# Altium schematic symbol library FDMS86183.SchLib: 1 symbol
Pins are listed as number, name and electrical type; pins without a type are passive.

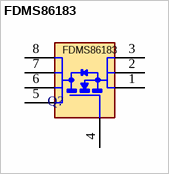
[diagram p0: symbol FDMS86183]

## FDMS86183
designator Q?
=Description
footprint FDMS86183
pins: 1 S, 2 S, 3 S, 4 G, 5 D, 6 D, 7 D, 8 D